# Altium schematic symbol library 435151014845.SchLib: 1 symbol
Pins are listed as number, name and electrical type; pins without a type are passive.

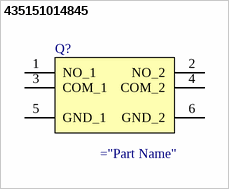
[diagram p0: symbol 435151014845]

## 435151014845
designator Q?
Tactile Switches WS-TASV Tact Switch; Manufacturer_Name: Wurth Elektronik; Manufacturer_Part_Number: 435151014845; Geometry.Height: 1.4mm; Mouser Part Number: 710-435151014845; Mouser Price/Stock: https://www.mouser.co.uk/ProductDetail/Wurth-Elektronik/435151014845?qs=OlC7AqGiEDm1DeUERlpGng%3D%3D; Datasheet Link: https://www.we-online.com/components/products/datasheet/435151014845.pdf
footprint 435151014845
pins: 1 NO_1, 2 NO_2, 3 COM_1, 4 COM_2, 5 GND_1, 6 GND_2